# EAGLE library part 3.12_OLED_SCREEN (library ali_modules)
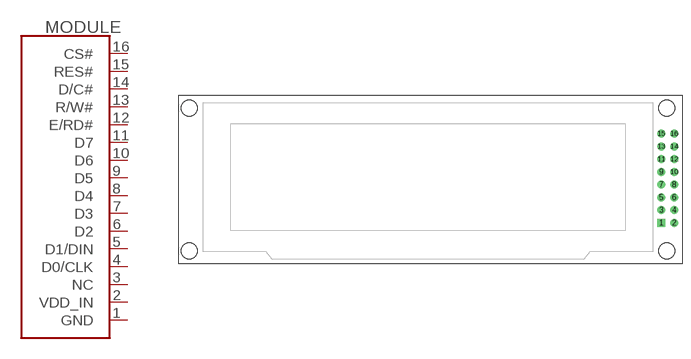
[diagram p25: symbol with the pads of OLED_LCDSOC_256X64_3.12; footprint OLED_LCDSOC_256X64_3.12]

Designator prefix MODULE

## 3.12_OLED_SCREEN  [OLED_LCDSOC_256X64_3.12]
1  GND
2  VDD_IN
3  NC
4  D0/CLK
5  D1/DIN
6  D2
7  D3
8  D4
9  D5
10  D6
11  D7
12  E/RD#
13  R/W#
14  D/C#
15  RES#
16  CS#

## Footprint OLED_LCDSOC_256X64_3.12 (pad centres in mm)
Drawing <https://aliexpress.ru/item/32949282762.html?sku_id=66244842141>
drill 1 pad 1.6 square: 1 45.96,-8.64
drill 1 pad 1.6: 2 48.5,-8.64; 3 45.96,-6.1; 4 48.5,-6.1; 5 45.96,-3.56; 6 48.5,-3.56; 7 45.96,-1.02; 8 48.5,-1.02; 9 45.96,1.52; 10 48.5,1.52; 11 45.96,4.06; 12 48.5,4.06; 13 45.96,6.6; 14 48.5,6.6; 15 45.96,9.14; 16 48.5,9.14
hole 3.2 at -48,-14.25
hole 3.2 at 47,-14.25
hole 3.2 at 47,14.25
hole 3.2 at -48,14.25